# EAGLE library part 82C55A (library micro-intel)
MICROCOMPUTER/PERIPHERAL DEVICE
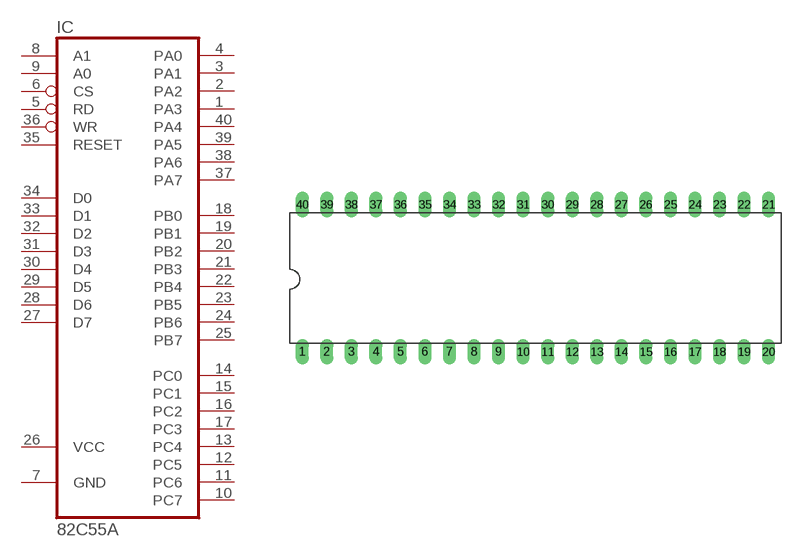
[diagram p0: symbol with the pads of DIL40; footprint DIL40]

Designator prefix IC

## 82C55A  [DIL40]
1  PA3
2  PA2
3  PA1
4  PA0
5  RD  in
6  CS  in
7  GND  pwr
8  A1  in
9  A0  in
10  PC7
11  PC6
12  PC5
13  PC4
14  PC0
15  PC1
16  PC2
17  PC3
18  PB0
19  PB1
20  PB2
21  PB3
22  PB4
23  PB5
24  PB6
25  PB7
26  VCC  pwr
27  D7
28  D6
29  D5
30  D4
31  D3
32  D2
33  D1
34  D0
35  RESET  in
36  WR  in
37  PA7
38  PA6
39  PA5
40  PA4

## Footprint DIL40 (pad centres in mm)
Dual In Line Package
drill 0.813 long: 1 -24.13,-7.62; 2 -21.59,-7.62; 3 -19.05,-7.62; 4 -16.51,-7.62; 5 -13.97,-7.62; 6 -11.43,-7.62; 7 -8.89,-7.62; 8 -6.35,-7.62; 9 -3.81,-7.62; 10 -1.27,-7.62; 11 1.27,-7.62; 12 3.81,-7.62; 13 6.35,-7.62; 14 8.89,-7.62; 15 11.43,-7.62; 16 13.97,-7.62; 17 16.51,-7.62; 18 19.05,-7.62; 19 21.59,-7.62; 20 24.13,-7.62; 21 24.13,7.62; 22 21.59,7.62; 23 19.05,7.62; 24 16.51,7.62; 25 13.97,7.62; 26 11.43,7.62; 27 8.89,7.62; 28 6.35,7.62; 29 3.81,7.62; 30 1.27,7.62; 31 -1.27,7.62; 32 -3.81,7.62; 33 -6.35,7.62; 34 -8.89,7.62; 35 -11.43,7.62; 36 -13.97,7.62; 37 -16.51,7.62; 38 -19.05,7.62; 39 -21.59,7.62; 40 -24.13,7.62